# Altium schematic symbol library passive.SchLib: 4 symbols
Pins are listed as number, name and electrical type; pins without a type are passive.

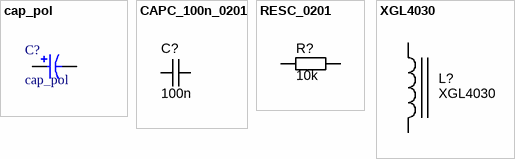
[diagram p0: symbols cap_pol to XGL4030]

## cap_pol
designator C?
footprint cap_radial_20
pins: 1, 2

## CAPC_100n_0201
designator C?  value 100n  (hidden comment: CAPC_100n_0201)
footprint CAPC0603X04N (Chip Capacitor, 2-Leads, Body 0,60x0,30mm, IPC Medium Density)
pins: 1, 2

## RESC_0201
designator R?  value 10k  (hidden comment: *)
footprint RESC0603X03N (Chip Resistor, 2-Leads, Body 0,60x0,30mm, IPC Medium Density)
pins: 1, 2

## XGL4030
designator L?
footprint XGL4030
pins: 1, 2